# EAGLE library part CEG8205A (library MTS-OTR_Custom)
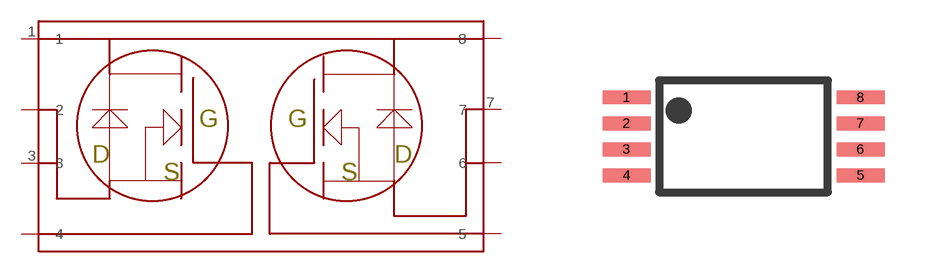
[diagram p10: symbol with the pads of CEG8205A; footprint CEG8205A]

Designator prefix -

## CEG8205A  [CEG8205A]
1  1
2  2
3  3
4  4
5  5
6  6
7  7
8  8

## Footprint CEG8205A (pad centres in mm)
smd 1.2 x 0.35: 1 -2.925,0.975; 2 -2.925,0.325; 3 -2.925,-0.325; 4 -2.925,-0.975; 5 2.925,-0.975; 6 2.925,-0.325; 7 2.925,0.325; 8 2.925,0.975